# Altium schematic symbol library Reference_Voltage.SchLib: 343 symbols (part 4 of 4)
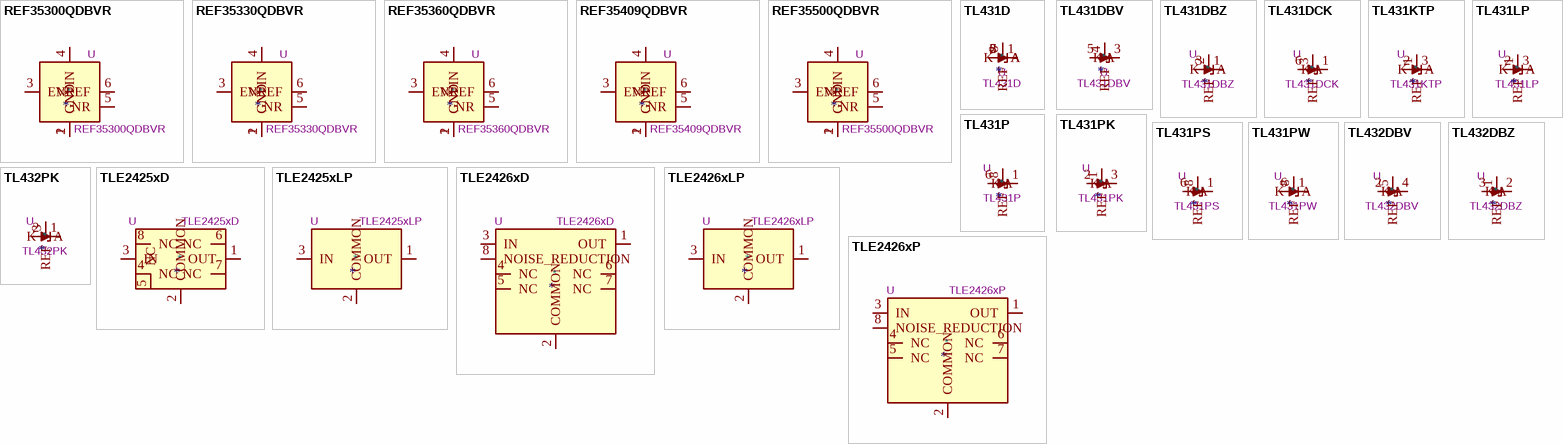
[diagram p11: symbols REF35300QDBVR to TLE2426xP]

## TL431KTP
designator *  value TL431KTP  Reference: U
Shunt Regulator, TO-252; ki_keywords: diode device shunt regulator; ki_fp_filters: TO*252*; Footprint: Package_TO_SOT_SMD:TO-252-2; Datasheet: http://www.jameco.com/Jameco/Products/ProdDS/760499.pdf; Description_: Shunt Regulator, TO-252
pins: 1 REF, 2 A, 3 K

## TL431LP
designator *  value TL431LP  Reference: U
Shunt Regulator, TO-92; ki_keywords: diode device regulator shunt; ki_fp_filters: TO*92*; Footprint: Package_TO_SOT_THT:TO-92_Inline; Datasheet: http://www.ti.com/lit/ds/symlink/tl431.pdf; Description_: Shunt Regulator, TO-92
pins: 1 REF, 2 A, 3 K

## TL431P
designator *  value TL431P  Reference: U
Shunt Regulator, PDIP-8; ki_keywords: diode device shunt regulator; ki_fp_filters: DIP*W7.62mm*; Footprint: Package_DIP:DIP-8_W7.62mm; Datasheet: http://www.ti.com/lit/ds/symlink/tl431.pdf; Description_: Shunt Regulator, PDIP-8
pins: 1 K, 6 A, 8 REF

## TL431PK
designator *  value TL431PK  Reference: U
Shunt Regulator, SOT-89; ki_keywords: diode device shunt regulator; ki_fp_filters: SOT*89*; Footprint: Package_TO_SOT_SMD:SOT-89-3; Datasheet: http://www.ti.com/lit/ds/symlink/tl431.pdf; Description_: Shunt Regulator, SOT-89
pins: 1 REF, 2 A, 3 K

## TL431PS
designator *  value TL431PS  Reference: U
Shunt Regulator, MSOP-8; ki_keywords: diode device shunt regulator; ki_fp_filters: MSOP*3x3mm*P0.65mm*; Footprint: Package_SO:MSOP-8_3x3mm_P0.65mm; Datasheet: http://www.ti.com/lit/ds/symlink/tl431.pdf; Description_: Shunt Regulator, MSOP-8
pins: 1 K, 6 A, 8 REF

## TL431PW
designator *  value TL431PW  Reference: U
Shunt Regulator, TSSOP-8; ki_keywords: diode device shunt regulator; ki_fp_filters: TSSOP*3x3mm*P0.65mm*; Footprint: Package_SO:TSSOP-8_3x3mm_P0.65mm; Datasheet: http://www.ti.com/lit/ds/symlink/tl431.pdf; Description_: Shunt Regulator, TSSOP-8
pins: 1 K, 6 A, 8 REF

## TL432DBV
designator *  value TL432DBV  Reference: U
Shunt Regulator, SOT-23-5; ki_keywords: diode device shunt regulator; ki_fp_filters: SOT?23?5*; Footprint: Package_TO_SOT_SMD:SOT-23-5; Datasheet: http://www.ti.com/lit/ds/symlink/tl431.pdf; Description_: Shunt Regulator, SOT-23-5
pins: 2 A, 4 K, 5 REF

## TL432DBZ
designator *  value TL432DBZ  Reference: U
Shunt Regulator, SOT-23; ki_keywords: diode device shunt regulator; ki_fp_filters: SOT?23*; Footprint: Package_TO_SOT_SMD:SOT-23; Datasheet: http://www.ti.com/lit/ds/symlink/tl431.pdf; Description_: Shunt Regulator, SOT-23
pins: 1 REF, 2 K, 3 A

## TL432PK
designator *  value TL432PK  Reference: U
Shunt Regulator, SOT-89; ki_keywords: diode device shunt regulator; ki_fp_filters: SOT*89*; Footprint: Package_TO_SOT_SMD:SOT-89-3; Datasheet: http://www.ti.com/lit/ds/symlink/tl431.pdf; Description_: Shunt Regulator, SOT-89
pins: 1 K, 2 A, 3 REF

## TLE2425xD
designator *  value TLE2425xD  Reference: U
Precision virtual ground, 2.5V output, SOIC-8; ki_keywords: Rail splitter precision virtual ground 2.5V; ki_fp_filters: SOIC*3.9x4.9mm*P1.27mm*; Footprint: Package_SO:SOIC-8_3.9x4.9mm_P1.27mm; Datasheet: http://www.ti.com/lit/ds/symlink/tle2425.pdf; Description_: Precision virtual ground, 2.5V output, SOIC-8
pins: 1 OUT, 2 COMMON, 3 IN, 4 NC, 5 NC, 6 NC, 7 NC, 8 NC

## TLE2425xLP
designator *  value TLE2425xLP  Reference: U
Precision virtual ground, 2.5V output, TO-92; ki_keywords: Rail splitter precision virtual ground 2.5V; ki_fp_filters: TO?92*; Datasheet: http://www.ti.com/lit/ds/symlink/tle2425.pdf; Description_: Precision virtual ground, 2.5V output, TO-92
pins: 1 OUT, 2 COMMON, 3 IN

## TLE2426xD
designator *  value TLE2426xD  Reference: U
Precision virtual ground, noise reduction pin, 4V to 40V input, SOIC-8; ki_keywords: Rail splitter precision virtual ground; ki_fp_filters: SOIC*3.9x4.9mm*P1.27mm*; Footprint: Package_SO:SOIC-8_3.9x4.9mm_P1.27mm; Datasheet: http://www.ti.com/lit/ds/symlink/tle2426.pdf; Description_: Precision virtual ground, noise reduction pin, 4V to 40V input, SOIC-8
pins: 1 OUT, 2 COMMON, 3 IN, 4 NC, 5 NC, 6 NC, 7 NC, 8 NOISE_REDUCTION

## TLE2426xLP
designator *  value TLE2426xLP  Reference: U
Precision virtual ground, 4V to 40V input, TO-92; ki_keywords: Rail splitter precision virtual ground; ki_fp_filters: TO?92*; Datasheet: http://www.ti.com/lit/ds/symlink/tle2426.pdf; Description_: Precision virtual ground, 4V to 40V input, TO-92
pins: 1 OUT, 2 COMMON, 3 IN

## TLE2426xP
designator *  value TLE2426xP  Reference: U
Precision virtual ground, noise reduction pin, 4V to 40V input, DIP-8; ki_keywords: Rail splitter precision vitrual ground; ki_fp_filters: DIP*W7.62mm*; Footprint: Package_DIP:DIP-8_W7.62mm; Datasheet: http://www.ti.com/lit/ds/symlink/tle2426.pdf; Description_: Precision virtual ground, noise reduction pin, 4V to 40V input, DIP-8
pins: 1 OUT, 2 COMMON, 3 IN, 4 NC, 5 NC, 6 NC, 7 NC, 8 NOISE_REDUCTION